# Altium schematic symbol library Schlib1.SchLib: 20 symbols
Pins are listed as number, name and electrical type; pins without a type are passive.

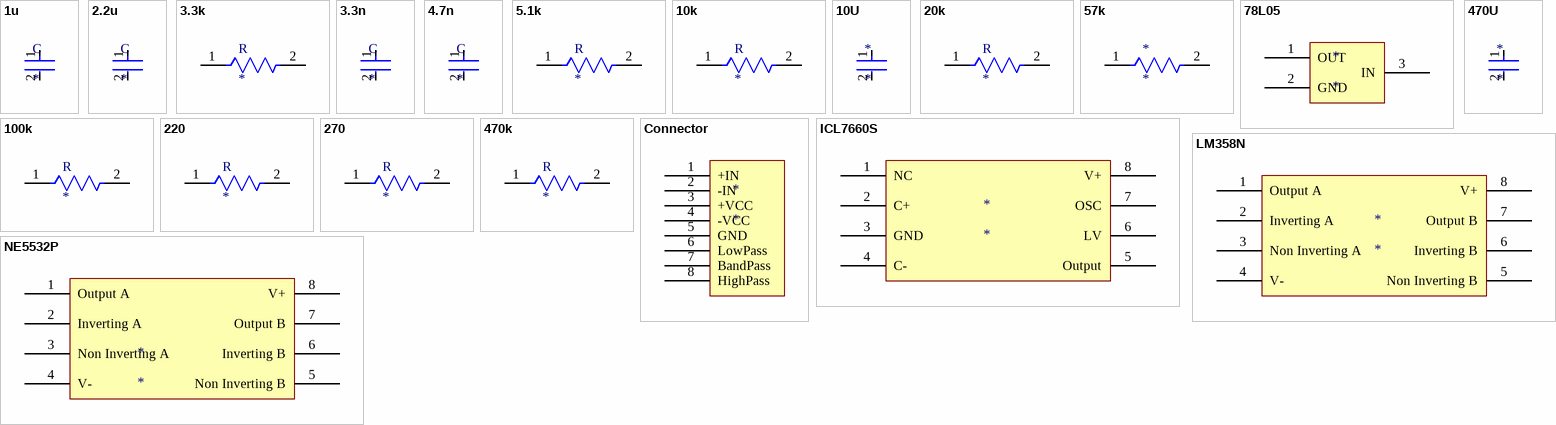
[diagram p0: symbols 1u to NE5532P]

## 1u
designator C
footprint 1u
pins: 1, 2

## 2.2u
designator C
footprint 2.2u
pins: 1, 2

## 3.3k
designator R
footprint THT
pins: 1, 2

## 3.3n
designator C
footprint 4.7n
pins: 1, 2

## 4.7n
designator C
footprint 4.7n
pins: 1, 2

## 5.1k
designator R
footprint THT
pins: 1, 2

## 10k
designator R
footprint THT
pins: 1, 2

## 10U
designator *
footprint 10u
pins: 1, 2

## 20k
designator R
footprint THT
pins: 1, 2

## 57k
designator *
footprint THT
pins: 1, 2

## 78L05
designator *
footprint 78L05
pins: 1 OUT, 2 GND, 3 IN

## 100k
designator R
footprint THT
pins: 1, 2

## 220
designator R
footprint THT
pins: 1, 2

## 270
designator R
footprint THT
pins: 1, 2

## 470k
designator R
footprint THT
pins: 1, 2

## 470U
designator *
footprint 470u
pins: 1, 2

## Connector
designator *
footprint Connector
pins: 1 +IN, 2 -IN, 3 +VCC, 4 -VCC, 5 GND, 6 LowPass, 7 BandPass, 8 HighPass

## ICL7660S
designator *
footprint ICL7660S
pins: 1 NC, 2 C+, 3 GND, 4 C-, 5 Output, 6 LV, 7 OSC, 8 V+

## LM358N
designator *
footprint LM358N
pins: 1 Output A, 2 Inverting A, 3 Non Inverting A, 4 V-, 5 Non Inverting B, 6 Inverting B, 7 Output B, 8 V+

## NE5532P
designator *
footprint NE5532P
pins: 1 Output A, 2 Inverting A, 3 Non Inverting A, 4 V-, 5 Non Inverting B, 6 Inverting B, 7 Output B, 8 V+